# Altium schematic symbol library LM311.SchLib: 1 symbol
Pins are listed as number, name and electrical type; pins without a type are passive.

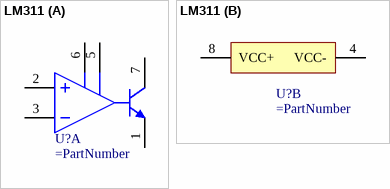
[diagram p0: symbol LM311]

## LM311
designator U?
part A pins: 1 EMIT_OUT, 2 IN+, 3 IN-, 5 BALANCE, 6 BAL/STRB, 7 COL_OUT
part B pins: 4 VCC-, 8 VCC+